# Altium footprint library Footprint.PcbLib: 18 footprints (part 1 of 2)
Each footprint in its own frame and in the unit in brackets; x right, y up, seen from the top. Pads: shape width x height; smd on the part's side, far side on the other; paste and mask are expansions set on the pad; w line width, h text height; cw(c..) or ccw(c..) is an arc to the next point about the centre after c.
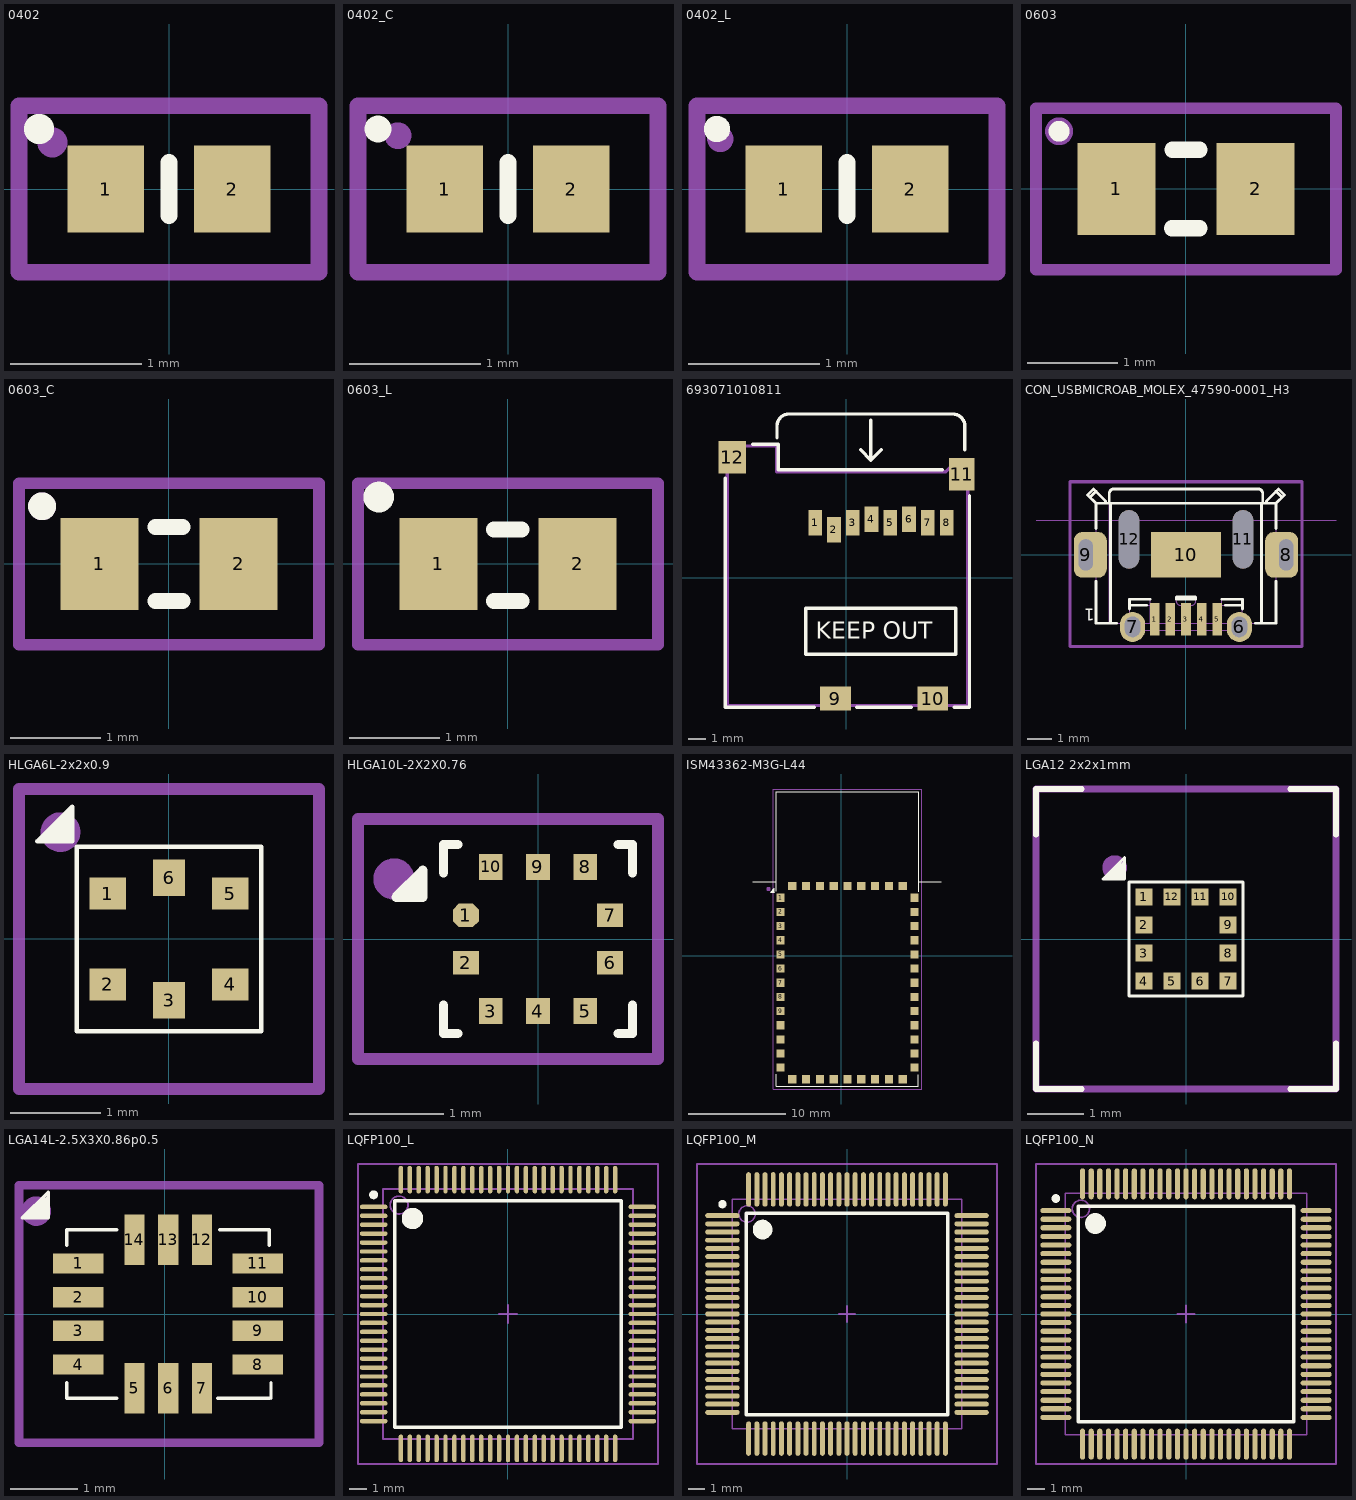
[diagram p0: the footprints below, top view; thin cyan lines are the x and y axes]

## 0402 [mil]
pads (2):
  rect 23x26 smd paste-1.5 mask+1: 1(-19,0) 2(19,0)
Top Overlay:
  circle w7: c-39,18 r1
  lines w5: 0,-7.99 0,8.01
Mechanical 15:
  circle w7: c-35,14 r1
  lines w5: -45,-25 -45,25 45,25 45,-25 -45,-25
  text ".Designator" at -30,-15 h35
3D body "SW3dPS-0402 SMD Resistor.STEP": height 7.95, standoff 0, extent -19.68,-11.8 19.69,11.82

## 0402_C [mil]
pads (2):
  rect 23x26 smd paste-1.5 mask+1: 1(-19,0) 2(19,0)
Top Overlay:
  circle w6: c-39,18 r1
  lines w5: 0,-8 0,8
Mechanical 15:
  circle w6: c-33,16 r1
  lines w5: -45,-25 -45,25 45,25 45,-25 -45,-25
  text ".Designator" at -40,-15 h35
3D body "User Library-Chip Cap_MLCC_0402 (1005).STEP": height 19.29, standoff -0.39, extent -19.69,-10 19.68,9.69

## 0402_L [mil]
height 23.62
pads (2):
  rect 23x26 smd paste-1.5 mask+1: 1(-19,0) 2(19,0)
Top Overlay:
  circle w3.94: c-39,18 r1.97
  lines w5: 0,-8 0,8
Mechanical 15:
  circle w3.94: c-38,15 r1.97
  lines w5: -45,-25 -45,25 45,25 45,-25 -45,-25
  text ".Designator" at -35,-15 h35
3D body "68855.stp": height 19.24, standoff -0.45, extent -19.69,-10.83 19.69,10.83

## 0603 [mil]
pads (2):
  rect 34x40 smd paste-1.5 mask+1: 1(-30.12,0) 2(30.12,0)
Top Overlay:
  circle w7: c-55,25 r1
  lines w7: -6,-17 5.81,-17 ; -5.91,17 5.91,17
Mechanical 15:
  circle w10: c-55,25 r1
  lines w5: -65,-35 -65,35 65,35 65,-35 -65,-35
  text ".Designator" at -62,-15 h35
3D body: height 20, standoff 0, extent -32,-16.5 32,16.5

## 0603_C [mil]
pads (2):
  rect 34x40 smd paste-1.5 mask+1: 1(-30.12,0) 2(30.12,0)
Top Overlay:
  circle w10: c-55,25 r1
  lines w7: -5.91,-16 5.91,-16 ; -5.91,16 5.91,16
Mechanical 15:
  circle w10: c-55,25 r1
  lines w5: -65,-35 65,-35 65,35 -65,35 -65,-35
  text ".Designator" at -58,-15 h35
3D body: height 35, standoff 0, extent -31.49,-15.74 31.5,15.75

## 0603_L [mil]
pads (2):
  rect 34x40 smd paste-1.5 mask+1: 1(-30.12,0) 2(30.12,0)
Top Overlay:
  circle w7: c-56,29 r3.16
  lines w7: -6,-16 5.81,-16 ; -6,15 5.81,15
Mechanical 15:
  circle w5: c-56,29 r3.16
  lines w5: -65,-35 -65,35 65,35 65,-35 -65,-35
  text ".Designator" at -54,-15 h35
3D body "45631.stp": height 31.05, standoff -0.45, extent -31.5,-15.74 31.5,15.76

## 693071010811 [mm]
pads (12):
  rect 0.8x1.5 smd mask+0.09: 1(-1.815,3.225) 2(-0.715,2.825) 3(0.385,3.225) 4(1.485,3.425) 5(2.585,3.225) 6(3.685,3.425) 7(4.785,3.225) 8(5.885,3.225)
  rect 1.8x1.4 smd: 9(-0.625,-7.075) 10(5.075,-7.075)
  rect 1.5x1.9 smd: 11(6.775,6.075)
  rect 1.6x1.9 smd: 12(-6.675,7.075)
Top Overlay:
  lines w0.2: -7.075,5.825 -7.075,-7.575 -1.875,-7.575 ; -5.475,7.825 -3.975,7.825 -3.975,6.325 5.625,6.325 ; -4.05,8.2 -4.05,8.9 cw(c-3.35,8.9) -3.35,9.6 6.25,9.6 cw(c6.25,8.9) 6.95,8.9 6.95,7.5 ; 0.625,-7.575 3.825,-7.575 ; 0.85,7.5 1.45,6.9 ; 1.45,9.25 1.45,6.9 ; 2.05,7.5 1.45,6.9 ; 6.325,-7.575 7.225,-7.575 7.225,4.825 ; -2.375,-4.475 6.425,-4.475 6.425,-1.775 -2.375,-1.775 -2.375,-4.475
  text "KEEP OUT" at -1.775,-3.575 h1
Mechanical 15:
  lines w0.2: -6.975,-7.475 7.125,-7.475 7.125,6.725 6.325,6.725 5.825,6.225 -4.075,6.225 -4.075,7.725 -6.975,7.725 -6.975,-7.475
  text ".Designator" at -3.175,-1.397 h0.89
3D body "693071010811.stp": height 1.83, standoff -0.07, extent -6.875,-7.46 7.125,7.75

## CON_USBMICROAB_MOLEX_47590-0001_H3 [mm] "CON_USBMICROAB_MOLEX_47590-0001_H3"
pads (12):
  rect 0.4x1.35 smd mask+0.05: 1(-1.3,-2.675) 2(-0.65,-2.675) 3(0,-2.675) 4(0.65,-2.675) 5(1.3,-2.675)
  oval 1.05x1.25 hole 0.65 slot 0.85 at 90 deg mask+0.05: 6(2.225,-3) 7(-2.225,-3)
  rrect50% 1.375x1.9 hole 0.6 slot 1.3 at 90 deg copper offset -0.188,0 mask+0.05: 8(4.175,0)
  rrect50% 1.375x1.9 hole 0.6 slot 1.3 at 90 deg copper offset 0.188,0 mask+0.05: 9(-4.175,0)
  rect 2.9x1.9 smd mask+0.05: 10(0,0)
  oval 0.85x2.425 hole 0.85 slot 2.425 at 90 deg unplated mask+0.1: 11(2.375,0.65) 12(-2.375,0.65)
Top Overlay:
  lines w0.12: -4,2.4 -3.75,2.65 ; -3.75,-1.1 -3.75,-2.85 -2.9,-2.85 ; -3.75,1.1 -3.75,2.15 ; -3.35,2.15 -3.35,2.25 -3.85,2.75 -4.1,2.5 -3.75,2.15 ; -3.2,2.15 -3.2,2.55 cw(c-3,2.55) -3,2.75 3,2.75 cw(c3,2.55) 3.2,2.55 3.2,2.15 ; -3.15,-2.85 -3.15,2.15 ; -2.35,-2.25 -2.35,-1.85 -1.5,-1.85 ; -2.35,-2.1 -1.65,-2.1 ; 1.5,-1.85 2.35,-1.85 2.35,-2.25 ; 1.65,-2.1 2.35,-2.1 ; 2.9,-2.85 3.75,-2.85 3.75,-1.1 ; 3.15,-2.85 3.15,1.2 3.15,2.15 ; 3.35,2.15 3.35,2.25 3.85,2.75 4.1,2.5 3.75,2.15 ; 3.75,1.1 3.75,2.15 ; 3.75,2.65 4,2.4 ; -3.75,2.15 3.75,2.15 ; -0.4,-1.85 -0.4,-1.75 0.4,-1.75 0.4,-1.85 -0.4,-1.85
  text "1" at -3.8,-2.25 h0.51
Mechanical 15:
  lines w0.127: -4.826,-3.81 -4.826,3.048 4.826,3.048 4.826,-3.81 -4.826,-3.81
  text ".Designator" at -3.175,-1.397 h0.89
Mechanical 16:
  lines w0.01: -6.25,1.45 6.25,1.45 ; -3.9,-0.65 -3.9,0.65 ; -3.75,-0.65 -4.4,-0.65 -4.4,0.65 -3.75,0.65 ; -3.75,2.65 -4,2.4 ; -3.35,2.15 -3.35,2.25 -3.85,2.75 -4.1,2.5 ; -2.5,-2.85 -2.5,-3.15 1.57,-3.15 2.5,-3.15 2.5,-2.85 ; -2.35,-2.85 -2.35,-1.85 -1.5,-1.85 -1.5,-2.85 ; -2.35,-2.1 -1.5,-2.1 ; -1.45,-3.15 -1.45,-3.3 -1.15,-3.3 -1.15,-3.15 ; -0.8,-3.15 -0.8,-3.3 -0.5,-3.3 -0.5,-3.15 ; -0.4,-1.85 0.4,-1.85 ; -0.15,-3.15 -0.15,-3.3 0.15,-3.3 0.15,-3.15 ; 0.5,-3.15 0.5,-3.3 0.8,-3.3 0.8,-3.15 ; 1.15,-3.15 1.15,-3.3 1.45,-3.3 1.45,-3.15 ; 1.5,-2.85 1.5,-1.85 2.35,-1.85 2.35,-2.85 ; 1.5,-2.1 2.35,-2.1 ; 3.2,-2.85 3.2,2.15 3.2,2.55 ccw(c3,2.55) 3,2.75 ; 3.35,2.15 3.35,2.25 3.85,2.75 4.1,2.5 3.75,2.15 ; 3.75,-0.65 4.4,-0.65 4.4,0.65 3.75,0.65 ; 3.75,2.65 4,2.4 ; 3.9,-0.65 3.9,0.65 ; -4.1,2.5 -3.75,2.15 ; -4.1,2.5 -4,2.4 ; -4.1,2.5 -4,2.4 ; -3.75,2.15 -3.75,-2.85 3.75,-2.85 3.75,2.15 ; -3.75,2.15 3.75,2.15 ; -3.2,-2.85 -3.2,-2.85 ; -3.2,-2.85 -3.2,2.15 ; -3.2,2.15 -3.2,2.55 cw(c-3,2.55) -3,2.75 3,2.75 ; -3.2,2.15 -3.2,2.15 ; -3.2,2.15 -3.2,2.15 ; -0.4,-1.75 0.4,-1.75 ; -0.4,-1.75 -0.4,-1.925 ccw(c-0.237,-1.937) -0.25,-2.1 0.25,-2.1 ccw(c0.238,-1.937) 0.4,-1.925 0.4,-1.75 ; -0.4,-1.75 0.4,-1.75 ; 3,2.75 3,2.75 ; 3,2.75 3,2.75 ; -4.85,-3.8 2.2,-3.8 4.85,-3.8 4.85,3.05 3.1,3.05 -4.85,3.05 -4.85,-3.8
Mechanical 27:
  text "5" at 1.5,-2.1 h0.51
  text "1" at -1.2,-2.1 h0.51
  text "PCB" at 6.2,2.15 h0.51
  text "EDGE" at -4.25,2.15 h0.51
3D body: height 3, standoff 0, extent -2.499,-3.149 2.5,-2.851
3D body: height 3, standoff 0, extent -4.16,-2.91 4.16,2.81
3D body "MOLEX_47590-0001.stp": height 2.72, standoff -0.64, extent -4.325,-3.15 4.325,2.75

## HLGA6L-2x2x0.9 [mm] "HLGA6L 2x2x0.9mm pitch1mm"
pads (6):
  rect 0.4x0.35 smd mask+0.05: 1(-0.675,0.5) 2(-0.675,-0.5) 4(0.675,-0.5) 5(0.675,0.5)
  rect 0.35x0.4 smd mask+0.05: 3(0,-0.675) 6(0,0.675)
Top Overlay:
  lines w0.05: -1.092,1.177 -1.194,1.177 -1.118,1.151 -1.092,1.228 -1.295,1.126 -1.118,1.126 -1.092,1.075 -1.092,1.304 -1.27,1.101 -1.346,1.126 -1.067,1.38 -1.321,1.101 -1.397,1.101 -1.067,1.456 ; -1.067,1.456 -1.448,1.075 -1.067,1.075 -1.067,1.456 ; -1.016,-1.016 1.016,-1.016 1.016,1.016 -1.016,1.016 -1.016,-1.016
Mechanical 15:
  circle w0.254: c-1.194,1.177 r0.091
  lines w0.127: -1.651,-1.651 -1.651,1.651 1.651,1.651 1.651,-1.651 -1.651,-1.651
  text ".Designator" at -1.524,-0.508 h0.89
3D body: height 1, standoff 0.9, extent -0.929,0.431 -0.43,0.93
3D body: height 0.9, standoff 0, extent -1.016,-1.016 1.016,1.016

## HLGA10L-2X2X0.76 [mm] "Name Type Description Vault Item Revision Revision Status    HLGA10L-2X2X0.76 Footprint HLGA-10L 2x2x0.76mm pitch 0.5mm"
pads (10):
  oct 0.275x0.25 smd paste+0 mask+0.05: 1(-0.763,0.25)
  rect 0.275x0.25 smd paste+0 mask+0.05: 2(-0.763,-0.25) 6(0.762,-0.25) 7(0.762,0.25)
  rect 0.25x0.275 smd paste+0 mask+0.05: 3(-0.5,-0.763) 4(0,-0.763) 5(0.5,-0.763) 8(0.5,0.762) 9(0,0.762) 10(-0.5,0.762)
Top Overlay:
  lines w0.1: -1.27,0.584 -1.27,0.483 -1.397,0.483 -1.219,0.661 -1.219,0.726 ; -1,-0.7 -1,-1 -0.85,-1 ; -1,0.7 -1,1 -0.85,1 ; 0.85,-1 1,-1 1,-0.7 ; 0.85,1 1,1 1,0.7 ; -1.219,0.726 -1.219,0.443 -1.502,0.443 -1.219,0.726
Mechanical 15:
  circle w0.254: c-1.524,0.635 r0.091
  lines w0.127: -1.905,-1.27 -1.905,1.27 1.27,1.27 1.27,-1.27 -1.905,-1.27
  text ".Designator" at -1.905,-0.635 h0.89
3D body: height 0.77, standoff 0.76, extent -0.862,0.154 -0.662,0.354
3D body: height 0.76, standoff 0, extent -1.016,-1.016 1.016,1.016

## ISM43362-M3G-L44 [mm] "Wifi Module ISM43362-M3G-L44"
pads (44):
  rect 0.84x0.84 smd: 1(-6.247,5.963) 2(-6.247,4.506) 3(-6.247,3.049) 4(-6.247,1.592) 5(-6.247,0.135) 6(-6.247,-1.322) 7(-6.247,-2.779) 8(-6.247,-4.236) 9(-6.247,-5.693) 10(-6.247,-7.15) 11(-6.247,-8.607) 12(-6.247,-10.064) 13(-6.247,-11.521) 14(-5.047,-12.721) 15(-3.627,-12.721) 16(-2.207,-12.721) 17(-0.787,-12.721) 18(0.633,-12.721) 19(2.053,-12.721) 20(3.473,-12.721) 21(4.893,-12.721) 22(6.313,-12.721) 23(7.513,-11.521) 24(7.513,-10.064) 25(7.513,-8.607) 26(7.513,-7.15) 27(7.513,-5.693) 28(7.513,-4.236) 29(7.513,-2.779) 30(7.513,-1.322) 31(7.513,0.135) 32(7.513,1.592) 33(7.513,3.049) 34(7.513,4.506) 35(7.513,5.963) 36(6.313,7.163) 37(4.893,7.163) 38(3.473,7.163) 39(2.053,7.163) 40(0.633,7.163) 41(-0.787,7.163) 42(-2.207,7.163) 43(-3.627,7.163) 44(-5.047,7.163)
Top Overlay:
  lines w0.05: -7.038,6.568 -7.089,6.568 ; -6.987,6.593 -6.937,6.619 -7.013,6.644 -6.911,6.644 ; -6.937,6.593 -6.911,6.543 -6.911,6.771 -7.089,6.568 ; -7.089,6.568 -7.165,6.593 -6.886,6.847 -7.14,6.568 -7.216,6.568 -6.886,6.924 ; -6.886,6.924 -7.267,6.543 -6.886,6.543 -6.886,6.924
  lines w0.1: -9.096,7.586 -6.683,7.586 ; -7.038,6.568 -6.987,6.568 -6.911,6.644 -6.911,6.771 -6.911,6.746 -7.013,6.644 ; -6.672,-12.203 -6.672,-13.429 -5.047,-13.429 6.313,-13.429 7.897,-13.429 7.897,-12.253 ; -6.672,6.644 -6.672,10.001 -6.672,16.856 -5.047,16.856 6.313,16.856 7.938,16.856 7.938,11.421 7.938,6.593 ; 7.973,7.586 10.259,7.586
Mechanical 15:
  circle w0.254: c-7.493,6.858 r0.091
  lines w0.127: -6.985,-13.716 -6.985,17.145 8.255,17.145 8.255,-13.716 -6.985,-13.716
  text ".Designator" at -3.302,-0.381 h0.89
3D body: height 0.9, standoff 0.1, extent -6.683,-13.422 7.948,16.88
3D body: height 2.7, standoff 0.9, extent -6.098,-12.914 7.364,6.466

## LGA12 2x2x1mm [mm] "LGA12 2x2x1mm"
pads (12):
  rect 0.3x0.3 smd mask+0.05: 1(-0.75,0.75) 2(-0.75,0.25) 3(-0.75,-0.25) 4(-0.75,-0.75) 5(-0.25,-0.75) 6(0.25,-0.75) 7(0.75,-0.75) 8(0.75,-0.25) 9(0.75,0.25) 10(0.75,0.75) 11(0.25,0.75) 12(-0.25,0.75)
Top Overlay:
  lines w0.05: -1.118,1.168 -1.219,1.168 -1.143,1.143 -1.118,1.219 -1.321,1.118 -1.143,1.118 -1.118,1.067 -1.118,1.295 -1.295,1.092 -1.372,1.118 -1.092,1.372 -1.346,1.092 -1.422,1.092 -1.092,1.448 ; -1.092,1.448 -1.473,1.067 -1.092,1.067 -1.092,1.448 ; -1.016,-1.016 -1.016,1.016 1.016,1.016 1.016,-1.016 -1.016,-1.016
  lines w0.1: -2.667,-1.854 -2.667,-2.667 -1.854,-2.667 ; -2.667,1.854 -2.667,2.667 -1.854,2.667 ; 1.854,-2.667 2.667,-2.667 2.667,-1.854 ; 1.854,2.667 2.667,2.667 2.667,1.854
Mechanical 15:
  circle w0.254: c-1.27,1.27 r0.091
  lines w0.127: -2.667,-2.667 -2.667,2.667 2.667,2.667 2.667,-2.667 -2.667,-2.667
  text ".Designator" at -2.54,-0.381 h0.89
3D body: height 1.1, standoff 1, extent -0.725,0.253 -0.227,0.753
3D body: height 1, standoff 0, extent -1.016,-1.016 1.016,1.016

## LGA14L-2.5X3X0.86p0.5 [mm] "LGA14 2.5x3x0.86mm pitch0.5mm"
pads (14):
  rect 0.75x0.3 smd mask+0.05: 1(-1.279,0.75) 2(-1.279,0.25) 3(-1.279,-0.25) 4(-1.279,-0.75) 8(1.381,-0.75) 9(1.381,-0.25) 10(1.381,0.25) 11(1.381,0.75)
  rect 0.3x0.75 smd mask+0.05: 5(-0.449,-1.1) 6(0.051,-1.1) 7(0.551,-1.1) 12(0.551,1.1) 13(0.051,1.1) 14(-0.449,1.1)
Top Overlay:
  lines w0.05: -1.88,1.448 -1.93,1.448 ; -1.829,1.473 -1.778,1.499 -1.854,1.524 -1.753,1.524 ; -1.778,1.473 -1.753,1.422 -1.753,1.651 -1.93,1.448 ; -1.449,-1.016 -1.449,-1.25 -0.711,-1.25 ; -1.449,1.016 -1.449,1.25 -0.711,1.25 ; 0.787,-1.25 1.551,-1.25 ; 0.813,1.25 1.551,1.25 1.551,1.016 ; 1.575,-1.25 1.575,-1.016 ; -1.93,1.448 -2.007,1.473 -1.727,1.727 -1.981,1.448 -2.057,1.448 -1.727,1.803 ; -1.727,1.803 -1.727,1.422 -2.108,1.422 -1.727,1.803
  lines w0.1: -1.88,1.448 -1.829,1.448 -1.753,1.524 -1.753,1.651 -1.753,1.626 -1.854,1.524
Mechanical 15:
  circle w0.254: c-1.905,1.524 r0.091
  lines w0.127: -2.159,-1.905 2.286,-1.905 2.286,1.905 -2.159,1.905 -2.159,-1.905
  text ".Designator" at -1.905,0 h0.89
3D body: height 0.9, standoff 0.8, extent -1.214,0.517 -0.716,1.016
3D body: height 0.86, standoff 0, extent -1.473,-1.27 1.575,1.27

## LQFP100_L [mm] "Thin QFP, 100-Leads, Body 14x14mm, Pitch 0.5mm, IPC High Density"
height 1.6
pads (100):
  oval 1.55x0.25 smd: 1(-7.525,6) 2(-7.525,5.5) 3(-7.525,5) 4(-7.525,4.5) 5(-7.525,4) 6(-7.525,3.5) 7(-7.525,3) 8(-7.525,2.5) 9(-7.525,2) 10(-7.525,1.5) 11(-7.525,1) 12(-7.525,0.5) 13(-7.525,0) 14(-7.525,-0.5) 15(-7.525,-1) 16(-7.525,-1.5) 17(-7.525,-2) 18(-7.525,-2.5) 19(-7.525,-3) 20(-7.525,-3.5) 21(-7.525,-4) 22(-7.525,-4.5) 23(-7.525,-5) 24(-7.525,-5.5) 25(-7.525,-6) 51(7.525,-6) 52(7.525,-5.5) 53(7.525,-5) 54(7.525,-4.5) 55(7.525,-4) 56(7.525,-3.5) 57(7.525,-3) 58(7.525,-2.5) 59(7.525,-2) 60(7.525,-1.5) 61(7.525,-1) 62(7.525,-0.5) 63(7.525,0) 64(7.525,0.5) 65(7.525,1) 66(7.525,1.5) 67(7.525,2) 68(7.525,2.5) 69(7.525,3) 70(7.525,3.5) 71(7.525,4) 72(7.525,4.5) 73(7.525,5) 74(7.525,5.5) 75(7.525,6)
  oval 0.25x1.55 smd: 26(-6,-7.525) 27(-5.5,-7.525) 28(-5,-7.525) 29(-4.5,-7.525) 30(-4,-7.525) 31(-3.5,-7.525) 32(-3,-7.525) 33(-2.5,-7.525) 34(-2,-7.525) 35(-1.5,-7.525) 36(-1,-7.525) 37(-0.5,-7.525) 38(0,-7.525) 39(0.5,-7.525) 40(1,-7.525) 41(1.5,-7.525) 42(2,-7.525) 43(2.5,-7.525) 44(3,-7.525) 45(3.5,-7.525) 46(4,-7.525) 47(4.5,-7.525) 48(5,-7.525) 49(5.5,-7.525) 50(6,-7.525) 76(6,7.525) 77(5.5,7.525) 78(5,7.525) 79(4.5,7.525) 80(4,7.525) 81(3.5,7.525) 82(3,7.525) 83(2.5,7.525) 84(2,7.525) 85(1.5,7.525) 86(1,7.525) 87(0.5,7.525) 88(0,7.525) 89(-0.5,7.525) 90(-1,7.525) 91(-1.5,7.525) 92(-2,7.525) 93(-2.5,7.525) 94(-3,7.525) 95(-3.5,7.525) 96(-4,7.525) 97(-4.5,7.525) 98(-5,7.525) 99(-5.5,7.525) 100(-6,7.525)
Top Overlay:
  circle w0.25: c-7.525,6.675 r0.125
  circle w0.6: c-5.35,5.35 r0.3
  lines w0.2: -6.35,-6.35 -6.35,6.35 6.35,6.35 6.35,-6.35 -6.35,-6.35
Mechanical 13:
  circle w0.1: c-6.1,6.1 r0.5
  lines w0.1: -7,-7 -7,7 7,7 7,-7 -7,-7
Mechanical 15:
  lines w0.1: -0.5,0 0.5,0 ; 0,-0.5 0,0.5 ; -8.4,-8.4 -8.4,8.4 8.4,8.4 8.4,-8.4 -8.4,-8.4
3D body: height 1.6, standoff 0, extent -7,-7 7,7

## LQFP100_M [mm] "Thin QFP, 100-Leads, Body 14x14mm, Pitch 0.5mm, IPC Low Density"
height 1.6
pads (100):
  oval 2.1x0.3 smd: 1(-7.6,6) 2(-7.6,5.5) 3(-7.6,5) 4(-7.6,4.5) 5(-7.6,4) 6(-7.6,3.5) 7(-7.6,3) 8(-7.6,2.5) 9(-7.6,2) 10(-7.6,1.5) 11(-7.6,1) 12(-7.6,0.5) 13(-7.6,0) 14(-7.6,-0.5) 15(-7.6,-1) 16(-7.6,-1.5) 17(-7.6,-2) 18(-7.6,-2.5) 19(-7.6,-3) 20(-7.6,-3.5) 21(-7.6,-4) 22(-7.6,-4.5) 23(-7.6,-5) 24(-7.6,-5.5) 25(-7.6,-6) 51(7.6,-6) 52(7.6,-5.5) 53(7.6,-5) 54(7.6,-4.5) 55(7.6,-4) 56(7.6,-3.5) 57(7.6,-3) 58(7.6,-2.5) 59(7.6,-2) 60(7.6,-1.5) 61(7.6,-1) 62(7.6,-0.5) 63(7.6,0) 64(7.6,0.5) 65(7.6,1) 66(7.6,1.5) 67(7.6,2) 68(7.6,2.5) 69(7.6,3) 70(7.6,3.5) 71(7.6,4) 72(7.6,4.5) 73(7.6,5) 74(7.6,5.5) 75(7.6,6)
  oval 0.3x2.1 smd: 26(-6,-7.6) 27(-5.5,-7.6) 28(-5,-7.6) 29(-4.5,-7.6) 30(-4,-7.6) 31(-3.5,-7.6) 32(-3,-7.6) 33(-2.5,-7.6) 34(-2,-7.6) 35(-1.5,-7.6) 36(-1,-7.6) 37(-0.5,-7.6) 38(0,-7.6) 39(0.5,-7.6) 40(1,-7.6) 41(1.5,-7.6) 42(2,-7.6) 43(2.5,-7.6) 44(3,-7.6) 45(3.5,-7.6) 46(4,-7.6) 47(4.5,-7.6) 48(5,-7.6) 49(5.5,-7.6) 50(6,-7.6) 76(6,7.6) 77(5.5,7.6) 78(5,7.6) 79(4.5,7.6) 80(4,7.6) 81(3.5,7.6) 82(3,7.6) 83(2.5,7.6) 84(2,7.6) 85(1.5,7.6) 86(1,7.6) 87(0.5,7.6) 88(0,7.6) 89(-0.5,7.6) 90(-1,7.6) 91(-1.5,7.6) 92(-2,7.6) 93(-2.5,7.6) 94(-3,7.6) 95(-3.5,7.6) 96(-4,7.6) 97(-4.5,7.6) 98(-5,7.6) 99(-5.5,7.6) 100(-6,7.6)
Top Overlay:
  circle w0.6: c-5.15,5.15 r0.3
  circle w0.25: c-7.6,6.7 r0.125
  lines w0.2: -6.15,-6.15 6.15,-6.15 6.15,6.15 -6.15,6.15 -6.15,-6.15
Mechanical 13:
  circle w0.1: c-6.1,6.1 r0.5
  lines w0.1: -7,-7 7,-7 7,7 -7,7 -7,-7
Mechanical 15:
  lines w0.1: -0.5,0 0.5,0 ; 0,-0.5 0,0.5 ; -9.15,-9.15 9.15,-9.15 9.15,9.15 -9.15,9.15 -9.15,-9.15
3D body: height 1.6, standoff 0, extent -7,-7 7,7

## LQFP100_N [mm] "Thin QFP, 100-Leads, Body 14x14mm, Pitch 0.5mm, IPC Medium Density"
height 1.6
pads (100):
  oval 1.8x0.3 smd: 1(-7.55,6) 2(-7.55,5.5) 3(-7.55,5) 4(-7.55,4.5) 5(-7.55,4) 6(-7.55,3.5) 7(-7.55,3) 8(-7.55,2.5) 9(-7.55,2) 10(-7.55,1.5) 11(-7.55,1) 12(-7.55,0.5) 13(-7.55,0) 14(-7.55,-0.5) 15(-7.55,-1) 16(-7.55,-1.5) 17(-7.55,-2) 18(-7.55,-2.5) 19(-7.55,-3) 20(-7.55,-3.5) 21(-7.55,-4) 22(-7.55,-4.5) 23(-7.55,-5) 24(-7.55,-5.5) 25(-7.55,-6) 51(7.55,-6) 52(7.55,-5.5) 53(7.55,-5) 54(7.55,-4.5) 55(7.55,-4) 56(7.55,-3.5) 57(7.55,-3) 58(7.55,-2.5) 59(7.55,-2) 60(7.55,-1.5) 61(7.55,-1) 62(7.55,-0.5) 63(7.55,0) 64(7.55,0.5) 65(7.55,1) 66(7.55,1.5) 67(7.55,2) 68(7.55,2.5) 69(7.55,3) 70(7.55,3.5) 71(7.55,4) 72(7.55,4.5) 73(7.55,5) 74(7.55,5.5) 75(7.55,6)
  oval 0.3x1.8 smd: 26(-6,-7.55) 27(-5.5,-7.55) 28(-5,-7.55) 29(-4.5,-7.55) 30(-4,-7.55) 31(-3.5,-7.55) 32(-3,-7.55) 33(-2.5,-7.55) 34(-2,-7.55) 35(-1.5,-7.55) 36(-1,-7.55) 37(-0.5,-7.55) 38(0,-7.55) 39(0.5,-7.55) 40(1,-7.55) 41(1.5,-7.55) 42(2,-7.55) 43(2.5,-7.55) 44(3,-7.55) 45(3.5,-7.55) 46(4,-7.55) 47(4.5,-7.55) 48(5,-7.55) 49(5.5,-7.55) 50(6,-7.55) 76(6,7.55) 77(5.5,7.55) 78(5,7.55) 79(4.5,7.55) 80(4,7.55) 81(3.5,7.55) 82(3,7.55) 83(2.5,7.55) 84(2,7.55) 85(1.5,7.55) 86(1,7.55) 87(0.5,7.55) 88(0,7.55) 89(-0.5,7.55) 90(-1,7.55) 91(-1.5,7.55) 92(-2,7.55) 93(-2.5,7.55) 94(-3,7.55) 95(-3.5,7.55) 96(-4,7.55) 97(-4.5,7.55) 98(-5,7.55) 99(-5.5,7.55) 100(-6,7.55)
Top Overlay:
  circle w0.6: c-5.25,5.25 r0.3
  circle w0.25: c-7.55,6.7 r0.125
  lines w0.2: -6.25,-6.25 6.25,-6.25 6.25,6.25 -6.25,6.25 -6.25,-6.25
Mechanical 13:
  circle w0.1: c-6.1,6.1 r0.5
  lines w0.1: -7,-7 7,-7 7,7 -7,7 -7,-7
Mechanical 15:
  lines w0.1: -0.5,0 0.5,0 ; 0,-0.5 0,0.5 ; -8.7,-8.7 8.7,-8.7 8.7,8.7 -8.7,8.7 -8.7,-8.7
3D body: height 1.6, standoff 0, extent -7,-7 7,7